# EAGLE library part 750313355 (library WE-POE++)
WE-PoE++ Power over Ethernet Plus Plus Transformer Characteristics Suitable for CCM Flyback or Active Clamp Forward Different power levels up to 95W Frequency range: 250-400 kHz Different output voltages available Custom designs available Applications Telecom Industrial Applications WLAN Access Point Safety cameras Intelligent LED Lighting Networks <https://www.we-online.com/components/media/o721702v209%20FAMILY-MID-POE%2B%2B.jpg> Details see: www.we-online.com/en/components/products/WE-POE-PLUS-PLUS <www.we-online.com/catalog/WE-POE-PLUS-PLUS/?utm_source=eagle_model&utm_medium=description_link&utm_campaign=eisos_eagle> Created by Ella 2024-01-30 2024(C) Wurth Elektronik
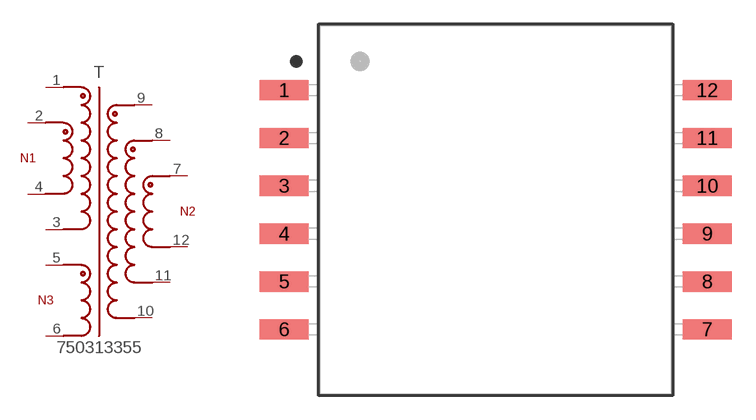
[diagram p6: symbol with the pads of WE-POE++_EFD20_L29.65W21.8H11.43; footprint WE-POE++_EFD20_L29.65W21.8H11.43]

Designator prefix T

## 750313355 (DATASHEET-URL: https://www.we-online.com/redexpert/spec/750313355?ae; IO1: 5A; L: 100uH; N: 2:1:1; PART-NUMBER: 750313355; SIZE: EFD20; VALUE: 750313355; VAUX: 12V; VERSION: Forward; VIN: 36 - 72 V (DC); VO1: 12V; VT: 1500V(AC))  [WE-POE++_EFD20_L29.65W21.8H11.43]
1  1  pas
2  2  pas
3  6  pas
4  5  pas
5  3  pas
6  4  pas
7  10  pas
8  11  pas
9  12  pas
10  7  pas
11  8  pas
12  9  pas

## Footprint WE-POE++_EFD20_L29.65W21.8H11.43 (pad centres in mm)
WE-PoE++ Power over Ethernet Plus Plus Transformer Size: EFD20, SMT, 12Pins LXWXH=29.65X21.8X11.43mm
smd 3.05 x 1.27: 1 -13.26,7.5; 2 -13.26,4.5; 3 -13.26,1.5; 4 -13.26,-1.5; 5 -13.26,-4.5; 6 -13.26,-7.5; 7 13.26,-7.5; 8 13.26,-4.5; 9 13.26,-1.5; 10 13.26,1.5; 11 13.26,4.5; 12 13.26,7.5